# EAGLE library part ISL29028A (library X893)
ISL29028A <http://www.intersil.com/content/dam/Intersil/documents/isl2/isl29028a.pdf>
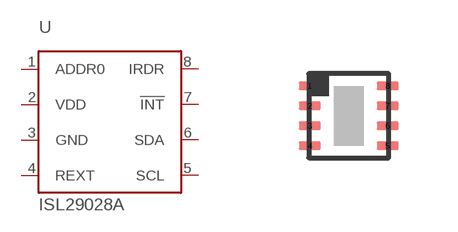
[diagram p244: symbol with the pads of L8.2.1X2.0; footprint L8.2.1X2.0]

Designator prefix U

## ISL29028A  [L8.2.1X2.0]
1  ADDR0
2  VDD  pwr
3  GND  pwr
4  REXT
5  SCL  oc
6  SDA  oc
7  !INT  oc
8  IRDR  pas

## Footprint L8.2.1X2.0 (pad centres in mm)
ISL29028A <http://www.intersil.com/content/dam/Intersil/documents/isl2/isl29028a.pdf>
smd 0.55 x 0.2: 1 -0.975,0.75; 2 -0.975,0.25; 3 -0.975,-0.25; 4 -0.975,-0.75; 5 0.975,-0.75; 6 0.975,-0.25; 7 0.975,0.25; 8 0.975,0.75